# Altium schematic symbol library N-Channel FET.SchLib: 448 symbols (part 1 of 8)
Pins are listed as number, name and electrical type; pins without a type are passive.

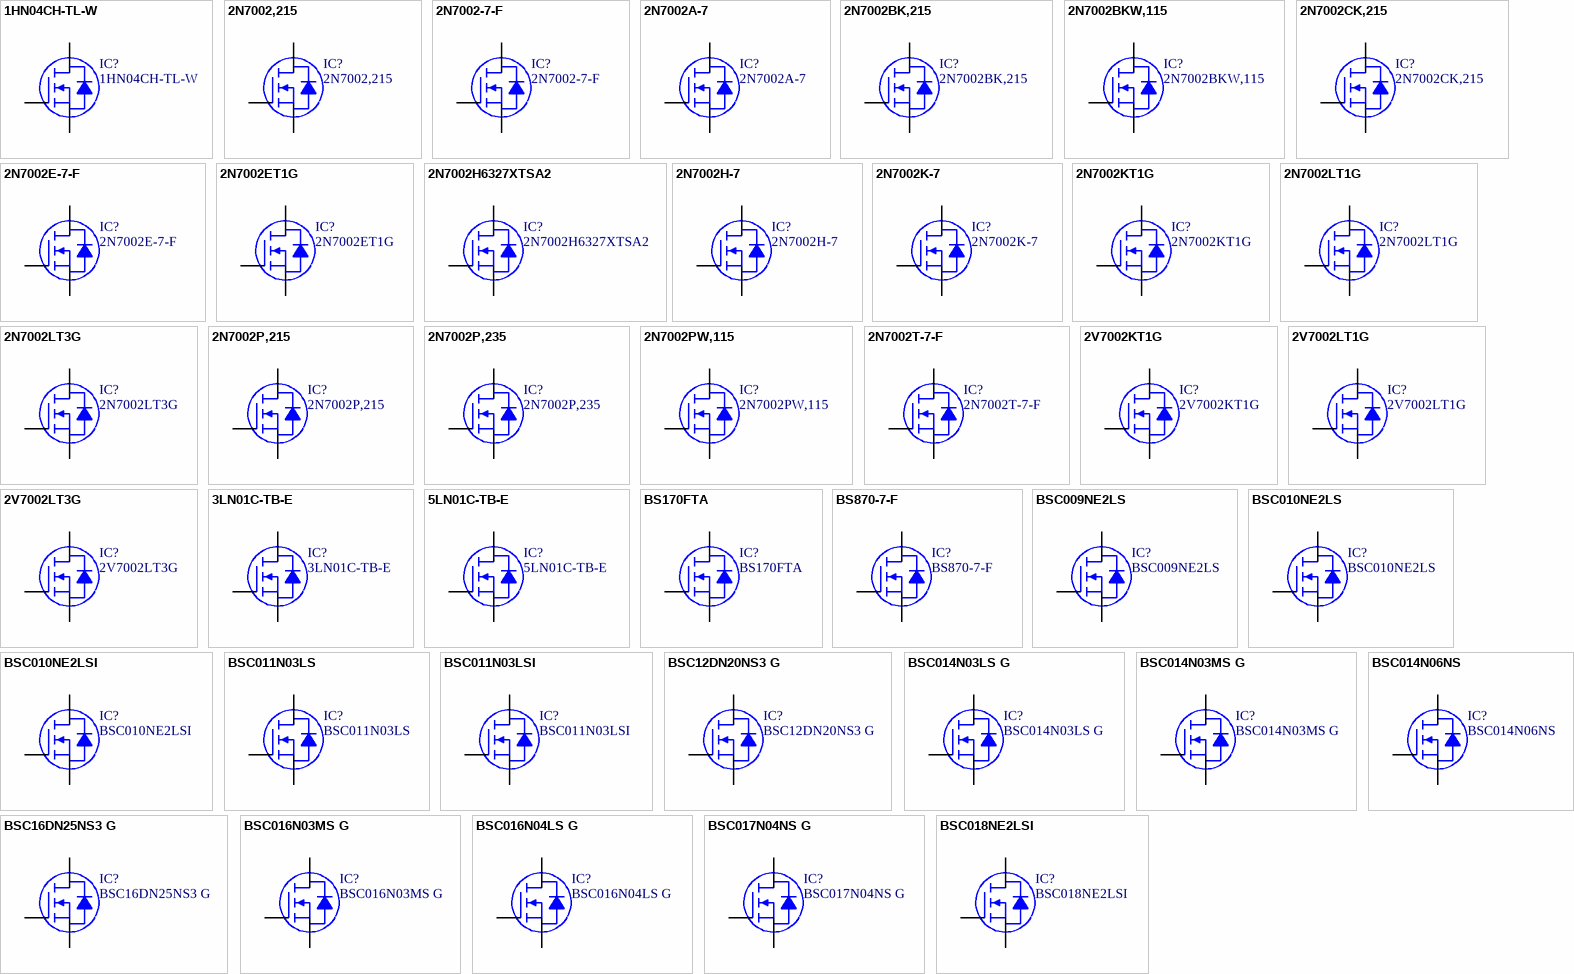
[diagram p0: symbols 1HN04CH-TL-W to BSC018NE2LSI]

## 1HN04CH-TL-W
designator IC?
MOSFET N-CH 100V 0.27A SOT-23; Manufacturer: ON Semiconductor; Rds On (Max) at Id, Vgs: 8 Ohm @ 140mA, 10V; Vgs(th) (Max) at Id: 20V; Gate Charge (Qg): 0.9nC @ 10V; Input Capacitance (Ciss) at Vds: 15pF @ 20V; Current Continuous Drain: 270mA (Ta); Part Number: 1HN04CH-TL-W; PartId: 29631; Supplier 1: Digi-Key; Supplier Part Number 1: 1HN04CH-TL-WOSCT-ND; ComponentLink1Description: Datasheet; ComponentLink1URL: http://www.onsemi.com/pub_link/Collateral/ENA0925-D.PDF; ComponentLink2Description: Digi-Key Listing; ComponentLink2URL: https://www.digikey.com/product-detail/en/on-semiconductor/1HN04CH-TL-W/1HN04CH-TL-WOSCT-ND/5969307; Price: 0.95; Type: N-Channel; Device Package: TO-236-3, SC-59, SOT-23-3; Drain to Source Voltage (Vdss): 100V
footprint ON SEMI SOT-23-3
pins: 1 G, 2 D, 3 S

## 2N7002,215
designator IC?
MOSFET N-CH 60V 300MA SOT-23; Manufacturer: NXP Semiconductors; Rds On (Max) at Id, Vgs: 5 Ohm @ 500mA, 10V; Vgs(th) (Max) at Id: 2.5V @ 250uA; Input Capacitance (Ciss) at Vds: 50pF @ 10V; Power - Max: 830mW; Current Continuous Drain: 300mA (Ta); Part Number: 2N7002,215; PartId: 7965; Supplier 1: Digi-Key; Supplier Part Number 1: 568-1369-2-ND; ComponentLink1Description: Datasheet; ComponentLink1URL: http://www.nxp.com/documents/data_sheet/2N7002.pdf; ComponentLink2Description: Digi-Key Listing; ComponentLink2URL: http://www.digikey.com/product-detail/en/2N7002,215/568-1369-2-ND/762973; Price: 0.0368; Type: MOSFET N-Channel, Metal Oxide; Device Package: TO-236-3, SC-59, SOT-23-3; Gate Charge (Qg): -; Drain to Source Voltage (Vdss): 60V; Features: Logic Level Gate
footprint NXP SOT-23-3 TO-236AB
pins: 1 G, 2 D, 3 S

## 2N7002-7-F
designator IC?
MOSFET N-CH 60V 115MA SOT23-3; Manufacturer: Diodes Incorporated; Rds On (Max) at Id, Vgs: 7.5 Ohm @ 50mA, 5V; Vgs(th) (Max) at Id: 2.5V @ 250uA; Input Capacitance (Ciss) at Vds: 50pF @ 25V; Power - Max: 370mW; Current Continuous Drain: 115mA (Ta); Part Number: 2N7002-7-F; PartId: 7967; Supplier 1: Digi-Key; Supplier Part Number 1: 2N7002-FDITR-ND; ComponentLink1Description: Datasheet; ComponentLink1URL: http://www.diodes.com/_files/datasheets/ds11303.pdf; ComponentLink2Description: Digi-Key Listing; ComponentLink2URL: http://www.digikey.com/product-detail/en/2N7002-7-F/2N7002-FDITR-ND/717681; Price: 0.0255; Type: MOSFET N-Channel, Metal Oxide; Device Package: TO-236-3, SC-59, SOT-23-3; Gate Charge (Qg): -; Drain to Source Voltage (Vdss): 60V; Features: Standard
footprint DIODES SOT-23-3
pins: 1 G, 2 D, 3 S

## 2N7002A-7
designator IC?
MOSFET N-CH 60V 0.18A SOT23; Manufacturer: Diodes Incorporated; Rds On (Max) at Id, Vgs: 6 Ohm @ 115mA, 5V; Vgs(th) (Max) at Id: 20V; Input Capacitance (Ciss) at Vds: 23pF @ 25V; Current Continuous Drain: 180mA (Ta); Part Number: 2N7002A-7; PartId: 29520; Supplier 1: Digi-Key; Supplier Part Number 1: 2N7002A-7DICT-ND; ComponentLink1Description: Datasheet; ComponentLink1URL: http://www.diodes.com/_files/datasheets/ds31360.pdf; ComponentLink2Description: Digi-Key Listing; ComponentLink2URL: https://www.digikey.com/product-detail/en/diodes-incorporated/2N7002A-7/2N7002A-7DICT-ND/3451590; Price: 0.44; Type: N-Channel; Device Package: TO-236-3, SC-59, SOT-23-3; Drain to Source Voltage (Vdss): 60V
footprint DIODES SOT-23-3
pins: 1 G, 2 D, 3 S

## 2N7002BK,215
designator IC?
MOSFET N-CH 60V 350MA SOT23; Manufacturer: NXP USA Inc.; Rds On (Max) at Id, Vgs: 1.6 Ohm @ 500mA, 10V; Vgs(th) (Max) at Id: 20V; Gate Charge (Qg): 0.6nC @ 4.5V; Input Capacitance (Ciss) at Vds: 50pF @ 10V; Current Continuous Drain: 350mA (Ta); Part Number: 2N7002BK,215; PartId: 29581; Supplier 1: Digi-Key; Supplier Part Number 1: 568-5981-1-ND; ComponentLink1Description: Datasheet; ComponentLink1URL: http://www.nxp.com/documents/data_sheet/2N7002BK.pdf; ComponentLink2Description: Digi-Key Listing; ComponentLink2URL: https://www.digikey.com/product-detail/en/nxp-usa-inc/2N7002BK,215/568-5981-1-ND/2531268; Price: 0.41; Type: N-Channel; Device Package: TO-236-3, SC-59, SOT-23-3; Drain to Source Voltage (Vdss): 60V
footprint NXP SOT-23-3 TO-236AB
pins: 1 G, 2 D, 3 S

## 2N7002BKW,115
designator IC?
MOSFET N-CH 60V 310MA SOT323; Manufacturer: NXP Semiconductors; Rds On (Max) at Id, Vgs: 1.6 Ohm @ 500mA, 10V; Vgs(th) (Max) at Id: 2.1V @ 250uA; Gate Charge (Qg): 0.6nC @ 4.5V; Input Capacitance (Ciss) at Vds: 50pF @ 10V; Power - Max: 275mW; Current Continuous Drain: 310mA (Ta); Part Number: 2N7002BKW,115; PartId: 8087; Supplier 1: Digi-Key; Supplier Part Number 1: 568-5980-2-ND; ComponentLink1Description: Datasheet; ComponentLink1URL: http://www.nxp.com/documents/data_sheet/2N7002BKW.pdf; ComponentLink2Description: Digi-Key Listing; ComponentLink2URL: http://www.digikey.com/product-detail/en/2N7002BKW,115/568-5980-2-ND/2405959; Price: 0.0632; Type: MOSFET N-Channel, Metal Oxide; Device Package: SC-70, SOT-323; Drain to Source Voltage (Vdss): 60V; Features: Logic Level Gate
footprint NXP SOT-323-3
pins: 1 G, 2 D, 3 S

## 2N7002CK,215
designator IC?
MOSFET N-CH 60V 0.3A SOT-23; Manufacturer: NXP USA Inc.; Rds On (Max) at Id, Vgs: 1.6 Ohm @ 500mA, 10V; Vgs(th) (Max) at Id: 20V; Gate Charge (Qg): 1.3nC @ 4.5V; Input Capacitance (Ciss) at Vds: 55pF @ 25V; Current Continuous Drain: 300mA (Ta); Part Number: 2N7002CK,215; PartId: 29593; Supplier 1: Digi-Key; Supplier Part Number 1: 568-5982-1-ND; ComponentLink1Description: Datasheet; ComponentLink1URL: http://www.nxp.com/documents/data_sheet/2N7002CK.pdf; ComponentLink2Description: Digi-Key Listing; ComponentLink2URL: https://www.digikey.com/product-detail/en/nxp-usa-inc/2N7002CK,215/568-5982-1-ND/2531269; Price: 0.5; Type: N-Channel; Device Package: TO-236-3, SC-59, SOT-23-3; Drain to Source Voltage (Vdss): 60V
footprint NXP SOT-23-3 TO-236AB
pins: 1 G, 2 D, 3 S

## 2N7002E-7-F
designator IC?
MOSFET N-CH 60V 0.25A SOT23-3; Manufacturer: Diodes Incorporated; Rds On (Max) at Id, Vgs: 3 Ohm @ 250mA, 10V; Vgs(th) (Max) at Id: 20V; Gate Charge (Qg): 0.22nC @ 4.5V; Input Capacitance (Ciss) at Vds: 50pF @ 25V; Current Continuous Drain: 250mA (Ta); Part Number: 2N7002E-7-F; PartId: 29519; Supplier 1: Digi-Key; Supplier Part Number 1: 2N7002E-FDICT-ND; ComponentLink1Description: Datasheet; ComponentLink1URL: http://www.diodes.com/_files/datasheets/ds30376.pdf; ComponentLink2Description: Digi-Key Listing; ComponentLink2URL: https://www.digikey.com/product-detail/en/diodes-incorporated/2N7002E-7-F/2N7002E-FDICT-ND/3877406; Price: 0.4; Type: N-Channel; Device Package: TO-236-3, SC-59, SOT-23-3; Drain to Source Voltage (Vdss): 60V
footprint DIODES SOT-23-3
pins: 1 G, 2 D, 3 S

## 2N7002ET1G
designator IC?
MOSFET N-CH 60V 260MA SOT-23; Manufacturer: ON Semiconductor; Rds On (Max) at Id, Vgs: 2.5 Ohm @ 240mA, 10V; Vgs(th) (Max) at Id: 20V; Gate Charge (Qg): 0.81nC @ 5V; Input Capacitance (Ciss) at Vds: 26.7pF @ 25V; Current Continuous Drain: 260mA (Ta); Part Number: 2N7002ET1G; PartId: 29611; Supplier 1: Digi-Key; Supplier Part Number 1: 2N7002ET1GOSCT-ND; ComponentLink1Description: Datasheet; ComponentLink1URL: http://www.onsemi.com/pub_link/Collateral/2N7002E-D.PDF; ComponentLink2Description: Digi-Key Listing; ComponentLink2URL: https://www.digikey.com/product-detail/en/on-semiconductor/2N7002ET1G/2N7002ET1GOSCT-ND/1967029; Price: 0.21; Type: N-Channel; Device Package: TO-236-3, SC-59, SOT-23-3; Drain to Source Voltage (Vdss): 60V
footprint ON SEMI SOT-23-3
pins: 1 G, 2 D, 3 S

## 2N7002H6327XTSA2
designator IC?
MOSFET N-CH 60V 0.3A SOT363; Manufacturer: Infineon Technologies; Rds On (Max) at Id, Vgs: 3 Ohm @ 500mA, 10V; Vgs(th) (Max) at Id: 20V; Gate Charge (Qg): 0.6nC @ 10V; Input Capacitance (Ciss) at Vds: 20pF @ 25V; Current Continuous Drain: 300mA (Ta); Part Number: 2N7002H6327XTSA2; PartId: 29470; Supplier 1: Digi-Key; Supplier Part Number 1: 2N7002H6327XTSA2CT-ND; ComponentLink1Description: Datasheet; ComponentLink1URL: http://www.infineon.com/dgdl/Infineon-2N7002-DS-v02_04-en.pdf?fileId=db3a304319bc939a0119c2a9461e79e6; ComponentLink2Description: Digi-Key Listing; ComponentLink2URL: https://www.digikey.com/product-detail/en/infineon-technologies/2N7002H6327XTSA2/2N7002H6327XTSA2CT-ND/5409977; Price: 0.28; Type: N-Channel; Device Package: TO-236-3, SC-59, SOT-23-3; Drain to Source Voltage (Vdss): 60V
footprint INFINEON SOT-23-3
pins: 1 G, 2 D, 3 S

## 2N7002H-7
designator IC?
MOSFET N-CH 60V 0.17A SOT23-3; Manufacturer: Diodes Incorporated; Rds On (Max) at Id, Vgs: 7.5 Ohm @ 50mA, 5V; Vgs(th) (Max) at Id: 20V; Gate Charge (Qg): 0.35nC @ 4.5V; Input Capacitance (Ciss) at Vds: 26pF @ 25V; Current Continuous Drain: 170mA (Ta); Part Number: 2N7002H-7; PartId: 29560; Supplier 1: Digi-Key; Supplier Part Number 1: 2N7002H-7DICT-ND; ComponentLink1Description: Datasheet; ComponentLink1URL: http://www.diodes.com/_files/datasheets/2N7002H.pdf; ComponentLink2Description: Digi-Key Listing; ComponentLink2URL: https://www.digikey.com/product-detail/en/diodes-incorporated/2N7002H-7/2N7002H-7DICT-ND/5453139; Price: 0.38; Type: N-Channel; Device Package: TO-236-3, SC-59, SOT-23-3; Drain to Source Voltage (Vdss): 60V
footprint DIODES SOT-23-3
pins: 1 G, 2 D, 3 S

## 2N7002K-7
designator IC?
MOSFET N-CH 60V 0.38A SOT23-3; Manufacturer: Diodes Incorporated; Rds On (Max) at Id, Vgs: 2 Ohm @ 500mA, 10V; Vgs(th) (Max) at Id: 20V; Gate Charge (Qg): 0.3nC @ 4.5V; Input Capacitance (Ciss) at Vds: 50pF @ 25V; Current Continuous Drain: 380mA (Ta); Part Number: 2N7002K-7; PartId: 29491; Supplier 1: Digi-Key; Supplier Part Number 1: 2N7002K-7DICT-ND; ComponentLink1Description: Datasheet; ComponentLink1URL: http://www.diodes.com/_files/datasheets/ds30896.pdf; ComponentLink2Description: Digi-Key Listing; ComponentLink2URL: https://www.digikey.com/product-detail/en/diodes-incorporated/2N7002K-7/2N7002K-7DICT-ND/3053305; Price: 0.31; Type: N-Channel; Device Package: TO-236-3, SC-59, SOT-23-3; Drain to Source Voltage (Vdss): 60V
footprint DIODES SOT-23-3
pins: 1 G, 2 D, 3 S

## 2N7002KT1G
designator IC?
MOSFET N-CH 60V 320MA SOT-23; Manufacturer: ON Semiconductor; Rds On (Max) at Id, Vgs: 1.6 Ohm @ 500mA, 10V; Vgs(th) (Max) at Id: 20V; Gate Charge (Qg): 0.7nC @ 4.5V; Input Capacitance (Ciss) at Vds: 24.5pF @ 20V; Current Continuous Drain: 320mA (Ta); Part Number: 2N7002KT1G; PartId: 29613; Supplier 1: Digi-Key; Supplier Part Number 1: 2N7002KT1GOSCT-ND; ComponentLink1Description: Datasheet; ComponentLink1URL: http://www.onsemi.com/pub_link/Collateral/2N7002K-D.PDF; ComponentLink2Description: Digi-Key Listing; ComponentLink2URL: https://www.digikey.com/product-detail/en/on-semiconductor/2N7002KT1G/2N7002KT1GOSCT-ND/1967030; Price: 0.29; Type: N-Channel; Device Package: TO-236-3, SC-59, SOT-23-3; Drain to Source Voltage (Vdss): 60V
footprint ON SEMI SOT-23-3
pins: 1 G, 2 D, 3 S

## 2N7002LT1G
designator IC?
MOSFET N-CH 60V 0.115A SOT-23; Manufacturer: ON Semiconductor; Rds On (Max) at Id, Vgs: 7.5 Ohm @ 500mA, 10V; Vgs(th) (Max) at Id: 20V; Input Capacitance (Ciss) at Vds: 50pF @ 25V; Current Continuous Drain: 115mA (Tc); Part Number: 2N7002LT1G; PartId: 29602; Supplier 1: Digi-Key; Supplier Part Number 1: 2N7002LT1GOSCT-ND; ComponentLink1Description: Datasheet; ComponentLink1URL: http://www.onsemi.com/pub_link/Collateral/2N7002L-D.PDF; ComponentLink2Description: Digi-Key Listing; ComponentLink2URL: https://www.digikey.com/product-detail/en/on-semiconductor/2N7002LT1G/2N7002LT1GOSCT-ND/917791; Price: 0.21; Type: N-Channel; Device Package: TO-236-3, SC-59, SOT-23-3; Drain to Source Voltage (Vdss): 60V
footprint ON SEMI SOT-23-3
pins: 1 G, 2 D, 3 S

## 2N7002LT3G
designator IC?
MOSFET N-CH 60V 0.115A SOT-23; Manufacturer: ON Semiconductor; Rds On (Max) at Id, Vgs: 7.5 Ohm @ 500mA, 10V; Vgs(th) (Max) at Id: 20V; Input Capacitance (Ciss) at Vds: 50pF @ 25V; Current Continuous Drain: 115mA (Tc); Part Number: 2N7002LT3G; PartId: 29609; Supplier 1: Digi-Key; Supplier Part Number 1: 2N7002LT3GOSCT-ND; ComponentLink1Description: Datasheet; ComponentLink1URL: http://www.onsemi.com/pub_link/Collateral/2N7002L-D.PDF; ComponentLink2Description: Digi-Key Listing; ComponentLink2URL: https://www.digikey.com/product-detail/en/on-semiconductor/2N7002LT3G/2N7002LT3GOSCT-ND/2704932; Price: 0.21; Type: N-Channel; Device Package: TO-236-3, SC-59, SOT-23-3; Drain to Source Voltage (Vdss): 60V
footprint ON SEMI SOT-23-3
pins: 1 G, 2 D, 3 S

## 2N7002P,215
designator IC?
MOSFET N-CH 60V 0.36A SOT-23; Manufacturer: NXP USA Inc.; Rds On (Max) at Id, Vgs: 1.6 Ohm @ 500mA, 10V; Vgs(th) (Max) at Id: 20V; Gate Charge (Qg): 0.8nC @ 4.5V; Input Capacitance (Ciss) at Vds: 50pF @ 10V; Current Continuous Drain: 360mA (Ta); Part Number: 2N7002P,215; PartId: 29580; Supplier 1: Digi-Key; Supplier Part Number 1: 568-5818-1-ND; ComponentLink1Description: Datasheet; ComponentLink1URL: http://www.nxp.com/documents/data_sheet/2N7002P.pdf; ComponentLink2Description: Digi-Key Listing; ComponentLink2URL: https://www.digikey.com/product-detail/en/nxp-usa-inc/2N7002P,215/568-5818-1-ND/2531105; Price: 0.21; Type: N-Channel; Device Package: TO-236-3, SC-59, SOT-23-3; Drain to Source Voltage (Vdss): 60V
footprint NXP SOT-23-3 TO-236AB
pins: 1 G, 2 D, 3 S

## 2N7002P,235
designator IC?
MOSFET N-CH 60V 0.36A SOT-23; Manufacturer: NXP USA Inc.; Rds On (Max) at Id, Vgs: 1.6 Ohm @ 500mA, 10V; Vgs(th) (Max) at Id: 20V; Gate Charge (Qg): 0.8nC @ 4.5V; Input Capacitance (Ciss) at Vds: 50pF @ 10V; Current Continuous Drain: 360mA (Ta); Part Number: 2N7002P,235; PartId: 29588; Supplier 1: Digi-Key; Supplier Part Number 1: 568-11588-1-ND; ComponentLink1Description: Datasheet; ComponentLink1URL: http://www.nxp.com/documents/data_sheet/2N7002P.pdf; ComponentLink2Description: Digi-Key Listing; ComponentLink2URL: https://www.digikey.com/product-detail/en/nxp-usa-inc/2N7002P,235/568-11588-1-ND/5015533; Price: 0.21; Type: N-Channel; Device Package: TO-236-3, SC-59, SOT-23-3; Drain to Source Voltage (Vdss): 60V
footprint NXP SOT-23-3 TO-236AB
pins: 1 G, 2 D, 3 S

## 2N7002PW,115
designator IC?
MOSFET N-CH 60V 0.31A SOT323; Manufacturer: NXP Semiconductors; Rds On (Max) at Id, Vgs: 1.6 Ohm @ 500mA, 10V; Vgs(th) (Max) at Id: 2.4V @ 250uA; Gate Charge (Qg): 0.8nC @ 4.5V; Input Capacitance (Ciss) at Vds: 50pF @ 10V; Power - Max: 260mW; Current Continuous Drain: 310mA (Ta); Part Number: 2N7002PW,115; PartId: 8081; Supplier 1: Digi-Key; Supplier Part Number 1: 568-5987-2-ND; ComponentLink1Description: Datasheet; ComponentLink1URL: http://media.digikey.com/pdf/Data%20Sheets/NXP%20PDFs/DiscreteSemiconductors.pdf; ComponentLink2Description: Digi-Key Listing; ComponentLink2URL: http://www.digikey.com/product-detail/en/2N7002PW,115/568-5987-2-ND/2296328; Price: 0.046; Type: MOSFET N-Channel, Metal Oxide; Device Package: SC-70, SOT-323; Drain to Source Voltage (Vdss): 60V; Features: Logic Level Gate
footprint NXP SOT-323-3
pins: 1 G, 2 D, 3 S

## 2N7002T-7-F
designator IC?
MOSFET N-CH 60V 115MA SOT-523; Manufacturer: Diodes Incorporated; Rds On (Max) at Id, Vgs: 7.5 Ohm @ 50mA, 5V; Vgs(th) (Max) at Id: 2V @ 250uA; Input Capacitance (Ciss) at Vds: 50pF @ 25V; Power - Max: 150mW; Current Continuous Drain: 115mA (Ta); Part Number: 2N7002T-7-F; PartId: 7966; Supplier 1: Digi-Key; Supplier Part Number 1: 2N7002T-FDITR-ND; ComponentLink1Description: Datasheet; ComponentLink1URL: http://www.diodes.com/_files/datasheets/ds30301.pdf; ComponentLink2Description: Digi-Key Listing; ComponentLink2URL: http://www.digikey.com/product-detail/en/2N7002T-7-F/2N7002T-FDITR-ND/814963; Price: 0.07; Type: MOSFET N-Channel, Metal Oxide; Device Package: SOT-523; Gate Charge (Qg): -; Drain to Source Voltage (Vdss): 60V; Features: Standard
footprint DIODES SOT-523
pins: 1 G, 2 D, 3 S

## 2V7002KT1G
designator IC?
MOSFET N-CH 60V 320MA SOT-23-3; Manufacturer: ON Semiconductor; Rds On (Max) at Id, Vgs: 1.6 Ohm @ 500mA, 10V; Vgs(th) (Max) at Id: 20V; Gate Charge (Qg): 0.7nC @ 4.5V; Input Capacitance (Ciss) at Vds: 24.5pF @ 20V; Current Continuous Drain: 320mA (Ta); Part Number: 2V7002KT1G; PartId: 29615; Supplier 1: Digi-Key; Supplier Part Number 1: 2V7002KT1GOSCT-ND; ComponentLink1Description: Datasheet; ComponentLink1URL: http://www.onsemi.com/pub_link/Collateral/2N7002K-D.PDF; ComponentLink2Description: Digi-Key Listing; ComponentLink2URL: https://www.digikey.com/product-detail/en/on-semiconductor/2V7002KT1G/2V7002KT1GOSCT-ND/3487498; Price: 0.35; Type: N-Channel; Device Package: TO-236-3, SC-59, SOT-23-3; Drain to Source Voltage (Vdss): 60V
footprint ON SEMI SOT-23-3
pins: 1 G, 2 D, 3 S

## 2V7002LT1G
designator IC?
MOSFET N-CH 60V 0.115A SOT-23-3; Manufacturer: ON Semiconductor; Rds On (Max) at Id, Vgs: 7.5 Ohm @ 500mA, 10V; Vgs(th) (Max) at Id: 20V; Input Capacitance (Ciss) at Vds: 50pF @ 25V; Current Continuous Drain: 115mA (Tc); Part Number: 2V7002LT1G; PartId: 29614; Supplier 1: Digi-Key; Supplier Part Number 1: 2V7002LT1GOSCT-ND; ComponentLink1Description: Datasheet; ComponentLink1URL: http://www.onsemi.com/pub_link/Collateral/2N7002L-D.PDF; ComponentLink2Description: Digi-Key Listing; ComponentLink2URL: https://www.digikey.com/product-detail/en/on-semiconductor/2V7002LT1G/2V7002LT1GOSCT-ND/4331836; Price: 0.35; Type: N-Channel; Device Package: TO-236-3, SC-59, SOT-23-3; Drain to Source Voltage (Vdss): 60V
footprint ON SEMI SOT-23-3
pins: 1 G, 2 D, 3 S

## 2V7002LT3G
designator IC?
MOSFET N-CH 60V .115A; Manufacturer: ON Semiconductor; Rds On (Max) at Id, Vgs: 7.5 Ohm @ 500mA, 10V; Vgs(th) (Max) at Id: 20V; Input Capacitance (Ciss) at Vds: 50pF @ 25V; Current Continuous Drain: 115mA (Tc); Part Number: 2V7002LT3G; PartId: 29625; Supplier 1: Digi-Key; Supplier Part Number 1: 2V7002LT3GOSCT-ND; ComponentLink1Description: Datasheet; ComponentLink1URL: http://www.onsemi.com/pub_link/Collateral/2N7002L-D.PDF; ComponentLink2Description: Digi-Key Listing; ComponentLink2URL: https://www.digikey.com/product-detail/en/on-semiconductor/2V7002LT3G/2V7002LT3GOSCT-ND/5801679; Price: 0.35; Type: N-Channel; Device Package: TO-236-3, SC-59, SOT-23-3; Drain to Source Voltage (Vdss): 60V
footprint ON SEMI SOT-23-3
pins: 1 G, 2 D, 3 S

## 3LN01C-TB-E
designator IC?
MOSFET N-CH 30V 150MA 3CP; Manufacturer: ON Semiconductor; Rds On (Max) at Id, Vgs: 3.7 Ohm @ 80mA, 4V; Vgs(th) (Max) at Id: 10V; Gate Charge (Qg): 1.58nC @ 10V; Input Capacitance (Ciss) at Vds: 7pF @ 10V; Current Continuous Drain: 150mA (Ta); Part Number: 3LN01C-TB-E; PartId: 29626; Supplier 1: Digi-Key; Supplier Part Number 1: 3LN01C-TB-EOSCT-ND; ComponentLink1Description: Datasheet; ComponentLink1URL: http://www.onsemi.com/pub_link/Collateral/3LN01C-D.PDF; ComponentLink2Description: Digi-Key Listing; ComponentLink2URL: https://www.digikey.com/product-detail/en/on-semiconductor/3LN01C-TB-E/3LN01C-TB-EOSCT-ND/5969372; Price: 0.51; Type: N-Channel; Device Package: TO-236-3, SC-59, SOT-23-3; Drain to Source Voltage (Vdss): 30V
footprint ON SEMI SOT-23-3
pins: 1 G, 2 D, 3 S

## 5LN01C-TB-E
designator IC?
MOSFET N-CH 50V 100MA 3CP; Manufacturer: ON Semiconductor; Rds On (Max) at Id, Vgs: 7.8 Ohm @ 50mA, 4V; Vgs(th) (Max) at Id: 10V; Gate Charge (Qg): 1.57nC @ 10V; Input Capacitance (Ciss) at Vds: 6.6pF @ 10V; Current Continuous Drain: 100mA (Ta); Part Number: 5LN01C-TB-E; PartId: 29618; Supplier 1: Digi-Key; Supplier Part Number 1: 5LN01C-TB-EOSCT-ND; ComponentLink1Description: Datasheet; ComponentLink1URL: http://www.onsemi.com/pub_link/Collateral/EN6555A-D.PDF; ComponentLink2Description: Digi-Key Listing; ComponentLink2URL: https://www.digikey.com/product-detail/en/on-semiconductor/5LN01C-TB-E/5LN01C-TB-EOSCT-ND/5213188; Price: 0.63; Type: N-Channel; Device Package: TO-236-3, SC-59, SOT-23-3; Drain to Source Voltage (Vdss): 50V
footprint ON SEMI SOT-23-3
pins: 1 G, 2 D, 3 S

## BS170FTA
designator IC?
MOSFET N-CH 60V 150MA SOT23-3; Manufacturer: Diodes Incorporated; Rds On (Max) at Id, Vgs: 5 Ohm @ 200mA, 10V; Vgs(th) (Max) at Id: 20V; Input Capacitance (Ciss) at Vds: 60pF @ 10V; Current Continuous Drain: 150mA (Ta); Part Number: BS170FTA; PartId: 29515; Supplier 1: Digi-Key; Supplier Part Number 1: BS170FCT-ND; ComponentLink1Description: Datasheet; ComponentLink1URL: //media.digikey.com/pdf/Data%20Sheets/Zetex%20PDFs/BS170F.PDF; ComponentLink2Description: Digi-Key Listing; ComponentLink2URL: https://www.digikey.com/product-detail/en/diodes-incorporated/BS170FTA/BS170FCT-ND/58816; Price: 0.97; Type: N-Channel; Device Package: TO-236-3, SC-59, SOT-23-3; Drain to Source Voltage (Vdss): 60V
footprint DIODES SOT-23-3
pins: 1 G, 2 D, 3 S

## BS870-7-F
designator IC?
MOSFET N-CH 60V 0.25A SOT23-3; Manufacturer: Diodes Incorporated; Rds On (Max) at Id, Vgs: 5 Ohm @ 200mA, 10V; Vgs(th) (Max) at Id: 20V; Input Capacitance (Ciss) at Vds: 50pF @ 10V; Current Continuous Drain: 250mA (Ta); Part Number: BS870-7-F; PartId: 29564; Supplier 1: Digi-Key; Supplier Part Number 1: BS870-FDICT-ND; ComponentLink1Description: Datasheet; ComponentLink1URL: http://www.diodes.com/_files/datasheets/ds11302.pdf; ComponentLink2Description: Digi-Key Listing; ComponentLink2URL: https://www.digikey.com/product-detail/en/diodes-incorporated/BS870-7-F/BS870-FDICT-ND/717841; Price: 0.5; Type: N-Channel; Device Package: TO-236-3, SC-59, SOT-23-3; Drain to Source Voltage (Vdss): 60V
footprint DIODES SOT-23-3
pins: 1 G, 2 D, 3 S

## BSC009NE2LS
designator IC?
MOSFET N-CH 25V 41A TDSON-8; Manufacturer: Infineon Technologies; Rds On (Max) at Id, Vgs: 0.9 mOhm @ 30A, 10V; Vgs(th) (Max) at Id: 2.2V @ 250uA; Gate Charge (Qg): 126nC @ 10V; Input Capacitance (Ciss) at Vds: 5800pF @ 12V; Power - Max: 96W; Current Continuous Drain: 41A (Ta), 100A (Tc); Part Number: BSC009NE2LS; PartId: 8012; Supplier 1: Digi-Key; Supplier Part Number 1: BSC009NE2LSTR-ND; ComponentLink1Description: Datasheet; ComponentLink1URL: http://www.infineon.com/dgdl/BSC009NE2LS_Rev+2.1.pdf?folderId=db3a304313b8b5a60113cee8763b02d7&fileId=db3a304332d040720132dd4232240e1d; ComponentLink2Description: Digi-Key Listing; ComponentLink2URL: http://www.digikey.com/product-detail/en/BSC009NE2LS/BSC009NE2LSTR-ND/2783437; Price: 0.6384; Type: MOSFET N-Channel, Metal Oxide; Device Package: 8-PowerTDFN; Drain to Source Voltage (Vdss): 25V; Features: Standard
footprint INFINEON PG-TDSON-8 6.15x5.32mm
pins: 1 S, 2 S, 3 S, 4 G, 5 D, 6 D, 7 D, 8 D

## BSC010NE2LS
designator IC?
MOSFET N-CH 25V 39A TDSON-8; Manufacturer: Infineon Technologies; Rds On (Max) at Id, Vgs: 1 mOhm @ 30A, 10V; Vgs(th) (Max) at Id: 2V @ 250uA; Gate Charge (Qg): 64nC @ 10V; Input Capacitance (Ciss) at Vds: 4700pF @ 12V; Power - Max: 2.5W; Current Continuous Drain: 39A (Ta), 100A (Tc); Part Number: BSC010NE2LS; PartId: 8038; Supplier 1: Digi-Key; Supplier Part Number 1: BSC010NE2LSTR-ND; ComponentLink1Description: Datasheet; ComponentLink1URL: http://www.infineon.com/dgdl/BSC010NE2LS_Rev+2.1.pdf?folderId=db3a304326dfb1300126fb3bec803f1a&fileId=db3a304326dfb1300126fb3d176a3f1b; ComponentLink2Description: Digi-Key Listing; ComponentLink2URL: http://www.digikey.com/product-detail/en/BSC010NE2LS/BSC010NE2LSTR-ND/2783438; Price: 0.5515; Type: MOSFET N-Channel, Metal Oxide; Device Package: 8-PowerTDFN; Drain to Source Voltage (Vdss): 25V; Features: Standard
footprint INFINEON PG-TDSON-8 6.15x5.32mm
pins: 1 S, 2 S, 3 S, 4 G, 5 D, 6 D, 7 D, 8 D

## BSC010NE2LSI
designator IC?
MOSFET N-CH 25V 38A TDSON-8; Manufacturer: Infineon Technologies; Rds On (Max) at Id, Vgs: 1.05 mOhm @ 30A, 10V; Vgs(th) (Max) at Id: 2V @ 250uA; Gate Charge (Qg): 59nC @ 10V; Input Capacitance (Ciss) at Vds: 4200pF @ 12V; Power - Max: 96W; Current Continuous Drain: 38A (Ta), 100A (Tc); Part Number: BSC010NE2LSI; PartId: 7977; Supplier 1: Digi-Key; Supplier Part Number 1: BSC010NE2LSITR-ND; ComponentLink1Description: Datasheet; ComponentLink1URL: http://www.infineon.com/dgdl/BSC010NE2LSI_Rev_2.1.pdf?folderId=db3a304313b8b5a60113cee8763b02d7&fileId=db3a30433072cd8f01308d8d1cdf33de; ComponentLink2Description: Digi-Key Listing; ComponentLink2URL: http://www.digikey.com/product-detail/en/BSC010NE2LSI/BSC010NE2LSITR-ND/2783439; Price: 0.5985; Type: MOSFET N-Channel, Metal Oxide; Device Package: 8-PowerTDFN; Drain to Source Voltage (Vdss): 25V; Features: Standard
footprint INFINEON PG-TDSON-8 6.15x5.32mm
pins: 1 S, 2 S, 3 S, 4 G, 5 D, 6 D, 7 D, 8 D

## BSC011N03LS
designator IC?
MOSFET N-CH 30V 100A 8TDSON; Manufacturer: Infineon Technologies; Rds On (Max) at Id, Vgs: 1.1 mOhm @ 30A, 10V; Vgs(th) (Max) at Id: 2.2V @ 250uA; Gate Charge (Qg): 72nC @ 10V; Input Capacitance (Ciss) at Vds: 4700pF @ 15V; Power - Max: 96W; Current Continuous Drain: 37A (Ta), 100A (Tc); Part Number: BSC011N03LS; PartId: 7995; Supplier 1: Digi-Key; Supplier Part Number 1: BSC011N03LSTR-ND; ComponentLink1Description: Datasheet; ComponentLink1URL: http://www.infineon.com/dgdl/BSC011N03LS_Rev+1.2.pdf?folderId=db3a304313b8b5a60113cee8763b02d7&fileId=db3a30432c64a60d012cbb2c20ff02a0; ComponentLink2Description: Digi-Key Listing; ComponentLink2URL: http://www.digikey.com/product-detail/en/BSC011N03LS/BSC011N03LSTR-ND/2527815; Price: 0.532; Type: MOSFET N-Channel, Metal Oxide; Device Package: 8-PowerTDFN; Drain to Source Voltage (Vdss): 30V; Features: Standard
footprint INFINEON PG-TDSON-8 6.15x5.32mm
pins: 1 S, 2 S, 3 S, 4 G, 5 D, 6 D, 7 D, 8 D

## BSC011N03LSI
designator IC?
MOSFET N-CH 30V 37A TDSON-8; Manufacturer: Infineon Technologies; Rds On (Max) at Id, Vgs: 1.1 mOhm @ 30A, 10V; Vgs(th) (Max) at Id: 2V @ 250uA; Gate Charge (Qg): 68nC @ 10V; Input Capacitance (Ciss) at Vds: 4300pF @ 15V; Power - Max: 96W; Current Continuous Drain: 37A (Ta), 100A (Tc); Part Number: BSC011N03LSI; PartId: 7992; Supplier 1: Digi-Key; Supplier Part Number 1: BSC011N03LSITR-ND; ComponentLink1Description: Datasheet; ComponentLink1URL: http://www.infineon.com/dgdl/BSC011N03LSI_Rev_2.1.pdf?folderId=db3a304313b8b5a60113cee8763b02d7&fileId=db3a30433072cd8f013097dfdcc22f66; ComponentLink2Description: Digi-Key Listing; ComponentLink2URL: http://www.digikey.com/product-detail/en/BSC011N03LSI/BSC011N03LSITR-ND/2783440; Price: 0.5586; Type: MOSFET N-Channel, Metal Oxide; Device Package: 8-PowerTDFN; Drain to Source Voltage (Vdss): 30V; Features: Standard
footprint INFINEON PG-TDSON-8 6.15x5.32mm
pins: 1 S, 2 S, 3 S, 4 G, 5 D, 6 D, 7 D, 8 D

## BSC12DN20NS3 G
designator IC?
MOSFET N-CH 200V 11.3A 8TDSON; Manufacturer: Infineon Technologies; Rds On (Max) at Id, Vgs: 125 mOhm @ 5.7A, 10V; Vgs(th) (Max) at Id: 4V @ 25uA; Gate Charge (Qg): 8.7nC @ 10V; Input Capacitance (Ciss) at Vds: 680pF @ 100V; Power - Max: 50W; Current Continuous Drain: 11.3A (Tc); Part Number: BSC12DN20NS3 G; PartId: 8041; Supplier 1: Digi-Key; Supplier Part Number 1: BSC12DN20NS3GTR-ND; ComponentLink1Description: Datasheet; ComponentLink1URL: http://www.infineon.com/dgdl/BSC12DN20NS3+Rev2.1.pdf?folderId=db3a304325305e6d012596c6ca7b290a&fileId=db3a30432ad629a6012b146334d419ec; ComponentLink2Description: Digi-Key Listing; ComponentLink2URL: http://www.digikey.com/product-detail/en/BSC12DN20NS3%20G/BSC12DN20NS3GTR-ND/2527821; Price: 0.5111; Type: MOSFET N-Channel, Metal Oxide; Device Package: 8-PowerTDFN; Drain to Source Voltage (Vdss): 200V; Features: Standard
footprint INFINEON PG-TDSON-8 6.15x5.32mm
pins: 1 S, 2 S, 3 S, 4 G, 5 D, 6 D, 7 D, 8 D

## BSC014N03LS G
designator IC?
MOSFET N-CH 30V 100A TDSON-8; Manufacturer: Infineon Technologies; Rds On (Max) at Id, Vgs: 1.4 mOhm @ 30A, 10V; Vgs(th) (Max) at Id: 2.2V @ 250uA; Gate Charge (Qg): 131nC @ 10V; Input Capacitance (Ciss) at Vds: 10000pF @ 15V; Power - Max: 139W; Current Continuous Drain: 34A (Ta), 100A (Tc); Part Number: BSC014N03LS G; PartId: 8027; Supplier 1: Digi-Key; Supplier Part Number 1: BSC014N03LS GTR-ND; ComponentLink1Description: Datasheet; ComponentLink1URL: http://www.infineon.com/dgdl/BSC014N03LS_rev1.3.pdf?folderId=db3a304313b8b5a60113cee8ed2a02db&fileId=db3a30431be39b97011c23384f5d77fb; ComponentLink2Description: Digi-Key Listing; ComponentLink2URL: http://www.digikey.com/product-detail/en/BSC014N03LS%20G/BSC014N03LS%20GTR-ND/2080608; Price: 0.5519; Type: MOSFET N-Channel, Metal Oxide; Device Package: 8-PowerTDFN; Drain to Source Voltage (Vdss): 30V; Features: Logic Level Gate
footprint INFINEON PG-TDSON-8 6.15x5.32mm
pins: 1 S, 2 S, 3 S, 4 G, 5 D, 6 D, 7 D, 8 D

## BSC014N03MS G
designator IC?
MOSFET N-CH 30V 100A TDSON-8; Manufacturer: Infineon Technologies; Rds On (Max) at Id, Vgs: 1.4 mOhm @ 30A, 10V; Vgs(th) (Max) at Id: 2V @ 250uA; Gate Charge (Qg): 173nC @ 10V; Input Capacitance (Ciss) at Vds: 13000pF @ 15V; Power - Max: 139W; Current Continuous Drain: 30A (Ta), 100A (Tc); Part Number: BSC014N03MS G; PartId: 8026; Supplier 1: Digi-Key; Supplier Part Number 1: BSC014N03MS GTR-ND; ComponentLink1Description: Datasheet; ComponentLink1URL: http://www.infineon.com/dgdl/BSC014N03MSG_rev1.2.pdf?folderId=db3a304313d846880113d91d60c500c4&fileId=db3a304319c6f18c011a38f5a96704e8; ComponentLink2Description: Digi-Key Listing; ComponentLink2URL: http://www.digikey.com/product-detail/en/BSC014N03MS%20G/BSC014N03MS%20GTR-ND/2080609; Price: 0.5519; Type: MOSFET N-Channel, Metal Oxide; Device Package: 8-PowerTDFN; Drain to Source Voltage (Vdss): 30V; Features: Standard
footprint INFINEON PG-TDSON-8 6.15x5.32mm
pins: 1 S, 2 S, 3 S, 4 G, 5 D, 6 D, 7 D, 8 D

## BSC014N06NS
designator IC?
MOSFET N-CH 60V 30A TDSON-8; Manufacturer: Infineon Technologies; Rds On (Max) at Id, Vgs: 1.45 mOhm @ 50A, 10V; Vgs(th) (Max) at Id: 2.8V @ 120uA; Gate Charge (Qg): 89nC @ 10V; Input Capacitance (Ciss) at Vds: 6500pF @ 30V; Power - Max: 2.5W; Current Continuous Drain: 30A (Ta), 100A (Tc); Part Number: BSC014N06NS; PartId: 8035; Supplier 1: Digi-Key; Supplier Part Number 1: BSC014N06NSTR-ND; ComponentLink1Description: Datasheet; ComponentLink1URL: http://www.infineon.com/dgdl/BSC014N06NS_Rev2.0.pdf?folderId=db3a304313b8b5a60113cee8763b02d7&fileId=db3a3043382e837301386ab95a521dcd; ComponentLink2Description: Digi-Key Listing; ComponentLink2URL: http://www.digikey.com/product-detail/en/BSC014N06NS/BSC014N06NSTR-ND/3719714; Price: 1.383; Type: MOSFET N-Channel, Metal Oxide; Device Package: 8-PowerTDFN; Drain to Source Voltage (Vdss): 60V; Features: Standard
footprint INFINEON PG-TDSON-8 6.15x5.32mm
pins: 1 S, 2 S, 3 S, 4 G, 5 D, 6 D, 7 D, 8 D

## BSC16DN25NS3 G
designator IC?
MOSFET N-CH 250V 10.9A 8TDSON; Manufacturer: Infineon Technologies; Rds On (Max) at Id, Vgs: 165 mOhm @ 5.5A, 10V; Vgs(th) (Max) at Id: 4V @ 32uA; Gate Charge (Qg): 11.4nC @ 10V; Input Capacitance (Ciss) at Vds: 920pF @ 100V; Power - Max: 62.5W; Current Continuous Drain: 10.9A (Tc); Part Number: BSC16DN25NS3 G; PartId: 8031; Supplier 1: Digi-Key; Supplier Part Number 1: BSC16DN25NS3GTR-ND; ComponentLink1Description: Datasheet; ComponentLink1URL: http://www.infineon.com/dgdl/BSC16DN25NS3+Rev2.1.pdf?folderId=db3a304325305e6d012596c6ca7b290a&fileId=db3a30432ad629a6012b1564f4541a33; ComponentLink2Description: Digi-Key Listing; ComponentLink2URL: http://www.digikey.com/product-detail/en/BSC16DN25NS3%20G/BSC16DN25NS3GTR-ND/2527822; Price: 0.6928; Type: MOSFET N-Channel, Metal Oxide; Device Package: 8-PowerTDFN; Drain to Source Voltage (Vdss): 250V; Features: Standard
footprint INFINEON PG-TDSON-8 6.15x5.32mm
pins: 1 S, 2 S, 3 S, 4 G, 5 D, 6 D, 7 D, 8 D

## BSC016N03MS G
designator IC?
MOSFET N-CH 30V 100A TDSON-8; Manufacturer: Infineon Technologies; Rds On (Max) at Id, Vgs: 1.6 mOhm @ 30A, 10V; Vgs(th) (Max) at Id: 2V @ 250uA; Gate Charge (Qg): 173nC @ 10V; Input Capacitance (Ciss) at Vds: 13000pF @ 15V; Power - Max: 125W; Current Continuous Drain: 28A (Ta), 100A (Tc); Part Number: BSC016N03MS G; PartId: 7981; Supplier 1: Digi-Key; Supplier Part Number 1: BSC016N03MSGINTR-ND; ComponentLink1Description: Datasheet; ComponentLink1URL: http://www.infineon.com/cms/en/services/download.html?filename=%2Fdgdl%2FBSC01.11.pdf%3FfolderId%3Ddb3a304313d846880113d91d60c500c4%26fileId%3Ddb3a304313d846880113de4a19bb0334&location=.en.product.fi; ComponentLink2Description: Digi-Key Listing; ComponentLink2URL: http://www.digikey.com/product-detail/en/BSC016N03MS%20G/BSC016N03MSGINTR-ND/1785561; Price: 0.5453; Type: MOSFET N-Channel, Metal Oxide; Device Package: 8-PowerTDFN; Drain to Source Voltage (Vdss): 30V; Features: Standard
footprint INFINEON PG-TDSON-8 6.15x5.32mm
pins: 1 S, 2 S, 3 S, 4 G, 5 D, 6 D, 7 D, 8 D

## BSC016N04LS G
designator IC?
MOSFET N-CH 40V 100A TDSON-8; Manufacturer: Infineon Technologies; Rds On (Max) at Id, Vgs: 1.6 mOhm @ 50A, 10V; Vgs(th) (Max) at Id: 2V @ 85uA; Gate Charge (Qg): 150nC @ 10V; Input Capacitance (Ciss) at Vds: 12000pF @ 20V; Power - Max: 139W; Current Continuous Drain: 31A (Ta), 100A (Tc); Part Number: BSC016N04LS G; PartId: 7980; Supplier 1: Digi-Key; Supplier Part Number 1: BSC016N04LS GTR-ND; ComponentLink1Description: Datasheet; ComponentLink1URL: http://www.infineon.com/dgdl/BSC016N04LSG_rev1.6.pdf?folderId=db3a304313b8b5a60113cee8763b02d7&fileId=db3a304318a6cd680118efe284830226; ComponentLink2Description: Digi-Key Listing; ComponentLink2URL: http://www.digikey.com/product-detail/en/BSC016N04LS%20G/BSC016N04LS%20GTR-ND/2080610; Price: 0.8703; Type: MOSFET N-Channel, Metal Oxide; Device Package: 8-PowerTDFN; Drain to Source Voltage (Vdss): 40V; Features: Logic Level Gate
footprint INFINEON PG-TDSON-8 6.15x5.32mm
pins: 1 S, 2 S, 3 S, 4 G, 5 D, 6 D, 7 D, 8 D

## BSC017N04NS G
designator IC?
MOSFET N-CH 40V 100A TDSON-8; Manufacturer: Infineon Technologies; Rds On (Max) at Id, Vgs: 1.7 mOhm @ 50A, 10V; Vgs(th) (Max) at Id: 4V @ 85uA; Gate Charge (Qg): 108nC @ 10V; Input Capacitance (Ciss) at Vds: 8800pF @ 20V; Power - Max: 139W; Current Continuous Drain: 30A (Ta), 100A (Tc); Part Number: BSC017N04NS G; PartId: 8030; Supplier 1: Digi-Key; Supplier Part Number 1: BSC017N04NS GTR-ND; ComponentLink1Description: Datasheet; ComponentLink1URL: http://www.infineon.com/dgdl/BSC017N04NSG_rev1.24.pdf?folderId=db3a304313b8b5a60113cee8763b02d7&fileId=db3a304318a6cd680118efe5d5a60236; ComponentLink2Description: Digi-Key Listing; ComponentLink2URL: http://www.digikey.com/product-detail/en/BSC017N04NS%20G/BSC017N04NS%20GTR-ND/2080611; Price: 0.8478; Type: MOSFET N-Channel, Metal Oxide; Device Package: 8-PowerTDFN; Drain to Source Voltage (Vdss): 40V; Features: Standard
footprint INFINEON PG-TDSON-8 6.15x5.32mm
pins: 1 S, 2 S, 3 S, 4 G, 5 D, 6 D, 7 D, 8 D

## BSC018NE2LSI
designator IC?
MOSFET N-CH 25V 29A TDSON-8; Manufacturer: Infineon Technologies; Rds On (Max) at Id, Vgs: 1.8 mOhm @ 30A, 10V; Vgs(th) (Max) at Id: 2V @ 250uA; Gate Charge (Qg): 36nC @ 10V; Input Capacitance (Ciss) at Vds: 2500pF @ 12V; Power - Max: 69W; Current Continuous Drain: 29A (Ta), 100A (Tc); Part Number: BSC018NE2LSI; PartId: 8039; Supplier 1: Digi-Key; Supplier Part Number 1: BSC018NE2LSITR-ND; ComponentLink1Description: Datasheet; ComponentLink1URL: http://www.infineon.com/dgdl/BSC018NE2LSI_Rev+2.2.pdf?folderId=db3a304313b8b5a60113cee8763b02d7&fileId=db3a30433072cd8f013093b8abf971c2; ComponentLink2Description: Digi-Key Listing; ComponentLink2URL: http://www.digikey.com/product-detail/en/BSC018NE2LSI/BSC018NE2LSITR-ND/2783443; Price: 0.4256; Type: MOSFET N-Channel, Metal Oxide; Device Package: 8-PowerTDFN; Drain to Source Voltage (Vdss): 25V; Features: Standard
footprint INFINEON PG-TDSON-8 6.15x5.32mm
pins: 1 S, 2 S, 3 S, 4 G, 5 D, 6 D, 7 D, 8 D

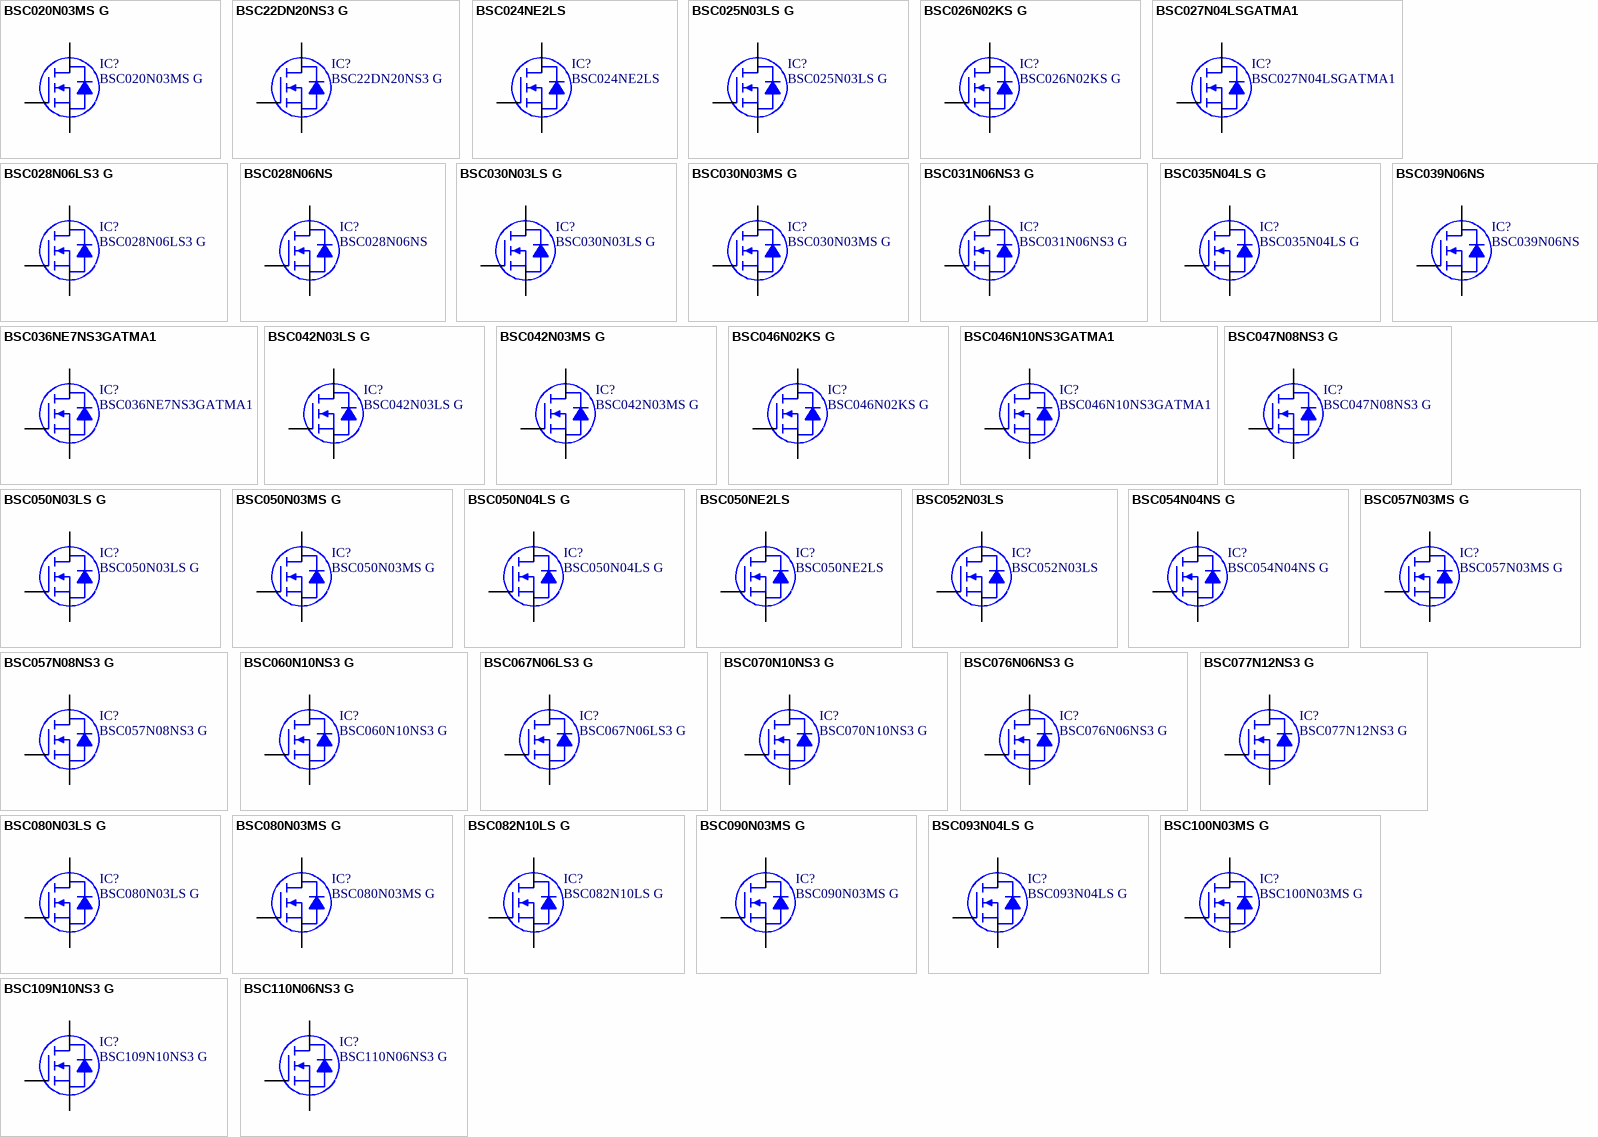
[diagram p1: symbols BSC020N03MS G to BSC110N06NS3 G]

## BSC020N03MS G
designator IC?
MOSFET N-CH 30V 100A TDSON-8; Manufacturer: Infineon Technologies; Rds On (Max) at Id, Vgs: 2 mOhm @ 30A, 10V; Vgs(th) (Max) at Id: 2V @ 250uA; Gate Charge (Qg): 124nC @ 10V; Input Capacitance (Ciss) at Vds: 9600pF @ 15V; Power - Max: 96W; Current Continuous Drain: 25A (Ta), 100A (Tc); Part Number: BSC020N03MS G; PartId: 7986; Supplier 1: Digi-Key; Supplier Part Number 1: BSC020N03MSGINTR-ND; ComponentLink1Description: Datasheet; ComponentLink1URL: http://www.infineon.com/cms/en/services/download.html?filename=%2Fdgdl%2FBSC020N03MS_rev1.11.pdf%3FfolderId%3Ddb3a304313d846880113d91d60c500c4%26fileId%3Ddb3a304313d846880113de4cd99d033e&location=.en; ComponentLink2Description: Digi-Key Listing; ComponentLink2URL: http://www.digikey.com/product-detail/en/BSC020N03MS%20G/BSC020N03MSGINTR-ND/1785562; Price: 0.4692; Type: MOSFET N-Channel, Metal Oxide; Device Package: 8-PowerTDFN; Drain to Source Voltage (Vdss): 30V; Features: Standard
footprint INFINEON PG-TDSON-8 6.15x5.32mm
pins: 1 S, 2 S, 3 S, 4 G, 5 D, 6 D, 7 D, 8 D

## BSC22DN20NS3 G
designator IC?
MOSFET N-CH 200V 7A 8TDSON; Manufacturer: Infineon Technologies; Rds On (Max) at Id, Vgs: 225 mOhm @ 3.5A, 10V; Vgs(th) (Max) at Id: 4V @ 13uA; Gate Charge (Qg): 5.6nC @ 10V; Input Capacitance (Ciss) at Vds: 430pF @ 100V; Power - Max: 34W; Current Continuous Drain: 7A (Tc); Part Number: BSC22DN20NS3 G; PartId: 8018; Supplier 1: Digi-Key; Supplier Part Number 1: BSC22DN20NS3 GTR-ND; ComponentLink1Description: Datasheet; ComponentLink1URL: http://www.infineon.com/dgdl/BSC22DN20NS3+Rev2.2.pdf?folderId=db3a304325305e6d012596c6ca7b290a&fileId=db3a30432ad629a6012b1582d2df1a48; ComponentLink2Description: Digi-Key Listing; ComponentLink2URL: http://www.digikey.com/product-detail/en/BSC22DN20NS3%20G/BSC22DN20NS3%20GTR-ND/2783228; Price: 0.4089; Type: MOSFET N-Channel, Metal Oxide; Device Package: 8-PowerTDFN; Drain to Source Voltage (Vdss): 200V; Features: Standard
footprint INFINEON PG-TDSON-8 6.15x5.32mm
pins: 1 S, 2 S, 3 S, 4 G, 5 D, 6 D, 7 D, 8 D

## BSC024NE2LS
designator IC?
MOSFET N-CH 25V 25A TDSON-8; Manufacturer: Infineon Technologies; Rds On (Max) at Id, Vgs: 2.4 mOhm @ 30A, 10V; Vgs(th) (Max) at Id: 2V @ 250uA; Gate Charge (Qg): 23nC @ 10V; Input Capacitance (Ciss) at Vds: 1700pF @ 12V; Power - Max: 48W; Current Continuous Drain: 25A (Ta), 100A (Tc); Part Number: BSC024NE2LS; PartId: 8028; Supplier 1: Digi-Key; Supplier Part Number 1: BSC024NE2LSTR-ND; ComponentLink1Description: Datasheet; ComponentLink1URL: http://www.infineon.com/dgdl/BSC024NE2LS_Rev+2.1.pdf?folderId=db3a304313b8b5a60113cee8763b02d7&fileId=db3a30432c64a60d012ca76f4fe52f6b; ComponentLink2Description: Digi-Key Listing; ComponentLink2URL: http://www.digikey.com/product-detail/en/BSC024NE2LS/BSC024NE2LSTR-ND/2783444; Price: 0.297; Type: MOSFET N-Channel, Metal Oxide; Device Package: 8-PowerTDFN; Drain to Source Voltage (Vdss): 25V; Features: Standard
footprint INFINEON PG-TDSON-8 6.15x5.32mm
pins: 1 S, 2 S, 3 S, 4 G, 5 D, 6 D, 7 D, 8 D

## BSC025N03LS G
designator IC?
MOSFET N-CH 30V 100A TDSON-8; Manufacturer: Infineon Technologies; Rds On (Max) at Id, Vgs: 2.5 mOhm @ 30A, 10V; Vgs(th) (Max) at Id: 2.2V @ 250uA; Gate Charge (Qg): 74nC @ 10V; Input Capacitance (Ciss) at Vds: 6100pF @ 15V; Power - Max: 83W; Current Continuous Drain: 25A (Ta), 100A (Tc); Part Number: BSC025N03LS G; PartId: 8019; Supplier 1: Digi-Key; Supplier Part Number 1: BSC025N03LSGINTR-ND; ComponentLink1Description: Datasheet; ComponentLink1URL: http://www.infineon.com/cms/en/services/download.html?filename=%2Fdgdl%2FBSC025N03LS_rev1.2.pdf%3FfolderId%3Ddb3a304412b407950112b408e8c90004%26fileId%3Ddb3a304412b407950112b4274ff53bff&location=.en.; ComponentLink2Description: Digi-Key Listing; ComponentLink2URL: http://www.digikey.com/product-detail/en/BSC025N03LS%20G/BSC025N03LSGINTR-ND/1785563; Price: 0.3866; Type: MOSFET N-Channel, Metal Oxide; Device Package: 8-PowerTDFN; Drain to Source Voltage (Vdss): 30V; Features: Logic Level Gate
footprint INFINEON PG-TDSON-8 6.15x5.32mm
pins: 1 S, 2 S, 3 S, 4 G, 5 D, 6 D, 7 D, 8 D

## BSC026N02KS G
designator IC?
MOSFET N-CH 20V 100A TDSON-8; Manufacturer: Infineon Technologies; Rds On (Max) at Id, Vgs: 2.6 mOhm @ 50A, 4.5V; Vgs(th) (Max) at Id: 1.2V @ 200uA; Gate Charge (Qg): 52.7nC @ 4.5V; Input Capacitance (Ciss) at Vds: 7800pF @ 10V; Power - Max: 78W; Current Continuous Drain: 25A (Ta), 100A (Tc); Part Number: BSC026N02KS G; PartId: 7989; Supplier 1: Digi-Key; Supplier Part Number 1: BSC026N02KS GTR-ND; ComponentLink1Description: Datasheet; ComponentLink1URL: http://www.infineon.com/dgdl/BSC026N02KS+G+Rev1.05.pdf?folderId=db3a3043163797a6011637c252b10018&fileId=db3a3043163797a6011637c2a4280019; ComponentLink2Description: Digi-Key Listing; ComponentLink2URL: http://www.digikey.com/product-detail/en/BSC026N02KS%20G/BSC026N02KS%20GTR-ND/2080615; Price: 0.5514; Type: MOSFET N-Channel, Metal Oxide; Device Package: 8-PowerTDFN; Drain to Source Voltage (Vdss): 20V; Features: Logic Level Gate, 2.5V Drive
footprint INFINEON PG-TDSON-8 6.15x5.32mm
pins: 1 S, 2 S, 3 S, 4 G, 5 D, 6 D, 7 D, 8 D

## BSC027N04LSGATMA1
designator IC?
MOSFET N-CH 40V 100A TDSON-8; Manufacturer: Infineon Technologies; Rds On (Max) at Id, Vgs: 2.7 mOhm @ 50A, 10V; Vgs(th) (Max) at Id: 2V @ 49uA; Gate Charge (Qg): 85nC @ 10V; Input Capacitance (Ciss) at Vds: 6800pF @ 20V; Power - Max: 83W; Current Continuous Drain: 24A (Ta), 100A (Tc); Part Number: BSC027N04LSGATMA1; PartId: 7984; Supplier 1: Digi-Key; Supplier Part Number 1: BSC027N04LSGATMA1TR-ND; ComponentLink1Description: Datasheet; ComponentLink1URL: http://www.infineon.com/dgdl/BSC027N04LSG_rev1.04.pdf?folderId=db3a3043156fd5730115c7d50620107c&fileId=db3a30431689f4420116c4323646080c; ComponentLink2Description: Digi-Key Listing; ComponentLink2URL: http://www.digikey.com/product-detail/en/BSC027N04LSGATMA1/BSC027N04LSGATMA1TR-ND/2080616; Price: 0.4123; Type: MOSFET N-Channel, Metal Oxide; Device Package: 8-PowerTDFN; Drain to Source Voltage (Vdss): 40V; Features: Logic Level Gate
footprint INFINEON PG-TDSON-8 6.15x5.32mm
pins: 1 S, 2 S, 3 S, 4 G, 5 D, 6 D, 7 D, 8 D

## BSC028N06LS3 G
designator IC?
MOSFET N-CH 60V 100A TDSON-8; Manufacturer: Infineon Technologies; Rds On (Max) at Id, Vgs: 2.8 mOhm @ 50A, 10V; Vgs(th) (Max) at Id: 2.2V @ 93uA; Gate Charge (Qg): 175nC @ 10V; Input Capacitance (Ciss) at Vds: 13000pF @ 30V; Power - Max: 139W; Current Continuous Drain: 23A (Ta), 100A (Tc); Part Number: BSC028N06LS3 G; PartId: 7994; Supplier 1: Digi-Key; Supplier Part Number 1: BSC028N06LS3 GTR-ND; ComponentLink1Description: Datasheet; ComponentLink1URL: http://www.infineon.com/dgdl/BSC028N06LS3_rev2.2.pdf?folderId=db3a30431ddc9372011ebafa04517f8b&fileId=db3a30431ddc9372011ebafa4c607f8c; ComponentLink2Description: Digi-Key Listing; ComponentLink2URL: http://www.digikey.com/product-detail/en/BSC028N06LS3%20G/BSC028N06LS3%20GTR-ND/2080617; Price: 0.9129; Type: MOSFET N-Channel, Metal Oxide; Device Package: 8-PowerTDFN; Drain to Source Voltage (Vdss): 60V; Features: Logic Level Gate
footprint INFINEON PG-TDSON-8 6.15x5.32mm
pins: 1 S, 2 S, 3 S, 4 G, 5 D, 6 D, 7 D, 8 D

## BSC028N06NS
designator IC?
MOSFET N-CH 60V 23A TDSON-8; Manufacturer: Infineon Technologies; Rds On (Max) at Id, Vgs: 2.8 mOhm @ 50A, 10V; Vgs(th) (Max) at Id: 2.8V @ 50uA; Gate Charge (Qg): 37nC @ 10V; Input Capacitance (Ciss) at Vds: 2700pF @ 30V; Power - Max: 2.5W; Current Continuous Drain: 23A (Ta), 100A (Tc); Part Number: BSC028N06NS; PartId: 8013; Supplier 1: Digi-Key; Supplier Part Number 1: BSC028N06NSTR-ND; ComponentLink1Description: Datasheet; ComponentLink1URL: http://www.infineon.com/dgdl/BSC028N06NS_Rev2.0.pdf?folderId=db3a30431ddc9372011ebafa04517f8b&fileId=db3a3043345a30bc013465d221bd62f9; ComponentLink2Description: Digi-Key Listing; ComponentLink2URL: http://www.digikey.com/product-detail/en/BSC028N06NS/BSC028N06NSTR-ND/3719793; Price: 0.7448; Type: MOSFET N-Channel, Metal Oxide; Device Package: 8-PowerTDFN; Drain to Source Voltage (Vdss): 60V; Features: Standard
footprint INFINEON PG-TDSON-8 6.15x5.32mm
pins: 1 S, 2 S, 3 S, 4 G, 5 D, 6 D, 7 D, 8 D

## BSC030N03LS G
designator IC?
MOSFET N-CH 30V 100A TDSON-8; Manufacturer: Infineon Technologies; Rds On (Max) at Id, Vgs: 3 mOhm @ 30A, 10V; Vgs(th) (Max) at Id: 2.2V @ 250uA; Gate Charge (Qg): 55nC @ 10V; Input Capacitance (Ciss) at Vds: 4300pF @ 15V; Power - Max: 69W; Current Continuous Drain: 23A (Ta), 100A (Tc); Part Number: BSC030N03LS G; PartId: 8006; Supplier 1: Digi-Key; Supplier Part Number 1: BSC030N03LS GTR-ND; ComponentLink1Description: Datasheet; ComponentLink1URL: http://www.infineon.com/dgdl/BSC030N03LS_rev1.25.pdf?folderId=db3a304412b407950112b408e8c90004&fileId=db3a304412b407950112b42766953c23; ComponentLink2Description: Digi-Key Listing; ComponentLink2URL: http://www.digikey.com/product-detail/en/BSC030N03LS%20G/BSC030N03LS%20GTR-ND/2080618; Price: 0.3105; Type: MOSFET N-Channel, Metal Oxide; Device Package: 8-PowerTDFN; Drain to Source Voltage (Vdss): 30V; Features: Logic Level Gate
footprint INFINEON PG-TDSON-8 6.15x5.32mm
pins: 1 S, 2 S, 3 S, 4 G, 5 D, 6 D, 7 D, 8 D

## BSC030N03MS G
designator IC?
MOSFET N-CH 30V 100A TDSON-8; Manufacturer: Infineon Technologies; Rds On (Max) at Id, Vgs: 3 mOhm @ 30A, 10V; Vgs(th) (Max) at Id: 2V @ 250uA; Gate Charge (Qg): 73nC @ 10V; Input Capacitance (Ciss) at Vds: 5700pF @ 15V; Power - Max: 69W; Current Continuous Drain: 21A (Ta), 100A (Tc); Part Number: BSC030N03MS G; PartId: 7988; Supplier 1: Digi-Key; Supplier Part Number 1: BSC030N03MSGINTR-ND; ComponentLink1Description: Datasheet; ComponentLink1URL: http://www.infineon.com/cms/en/services/download.html?filename=%2Fdgdl%2FBSC030N03MS_rev%2B1.11.pdf%3FfolderId%3Ddb3a304313d846880113d91d60c500c4%26fileId%3Ddb3a304313d846880113de605dea0359&location=; ComponentLink2Description: Digi-Key Listing; ComponentLink2URL: http://www.digikey.com/product-detail/en/BSC030N03MS%20G/BSC030N03MSGINTR-ND/1785565; Price: 0.324; Type: MOSFET N-Channel, Metal Oxide; Device Package: 8-PowerTDFN; Drain to Source Voltage (Vdss): 30V; Features: Standard
footprint INFINEON PG-TDSON-8 6.15x5.32mm
pins: 1 S, 2 S, 3 S, 4 G, 5 D, 6 D, 7 D, 8 D

## BSC031N06NS3 G
designator IC?
MOSFET N-CH 60V 100A TDSON-8; Manufacturer: Infineon Technologies; Rds On (Max) at Id, Vgs: 3.1 mOhm @ 50A, 10V; Vgs(th) (Max) at Id: 4V @ 93uA; Gate Charge (Qg): 130nC @ 10V; Input Capacitance (Ciss) at Vds: 11000pF @ 30V; Power - Max: 139W; Current Continuous Drain: 100A (Tc); Part Number: BSC031N06NS3 G; PartId: 8014; Supplier 1: Digi-Key; Supplier Part Number 1: BSC031N06NS3 GTR-ND; ComponentLink1Description: Datasheet; ComponentLink1URL: http://www.infineon.com/dgdl/BSC031N06NS3_Rev2.3.pdf?folderId=db3a30431ddc9372011ebafa04517f8b&fileId=db3a30431ddc9372011ebaff49fa7fa6; ComponentLink2Description: Digi-Key Listing; ComponentLink2URL: http://www.digikey.com/product-detail/en/BSC031N06NS3%20G/BSC031N06NS3%20GTR-ND/2080621; Price: 0.66; Type: MOSFET N-Channel, Metal Oxide; Device Package: 8-PowerTDFN; Drain to Source Voltage (Vdss): 60V; Features: Standard
footprint INFINEON PG-TDSON-8 6.15x5.32mm
pins: 1 S, 2 S, 3 S, 4 G, 5 D, 6 D, 7 D, 8 D

## BSC035N04LS G
designator IC?
MOSFET N-CH 40V 100A TDSON-8; Manufacturer: Infineon Technologies; Rds On (Max) at Id, Vgs: 3.5 mOhm @ 50A, 10V; Vgs(th) (Max) at Id: 2V @ 36uA; Gate Charge (Qg): 64nC @ 10V; Input Capacitance (Ciss) at Vds: 5100pF @ 20V; Power - Max: 69W; Current Continuous Drain: 21A (Ta), 100A (Tc); Part Number: BSC035N04LS G; PartId: 7982; Supplier 1: Digi-Key; Supplier Part Number 1: BSC035N04LS GTR-ND; ComponentLink1Description: Datasheet; ComponentLink1URL: http://www.infineon.com/dgdl/BSC035N04LSG_rev1.02.pdf?folderId=db3a3043156fd5730115c7d50620107c&fileId=db3a30431689f4420116c4388f820817; ComponentLink2Description: Digi-Key Listing; ComponentLink2URL: http://www.digikey.com/product-detail/en/BSC035N04LS%20G/BSC035N04LS%20GTR-ND/2080623; Price: 0.3307; Type: MOSFET N-Channel, Metal Oxide; Device Package: 8-PowerTDFN; Drain to Source Voltage (Vdss): 40V; Features: Logic Level Gate
footprint INFINEON PG-TDSON-8 6.15x5.32mm
pins: 1 S, 2 S, 3 S, 4 G, 5 D, 6 D, 7 D, 8 D

## BSC036NE7NS3GATMA1
designator IC?
MOSFET N-CH 75V 100A TDSON-8; Manufacturer: Infineon Technologies; Rds On (Max) at Id, Vgs: 3.6 mOhm @ 50A, 10V; Vgs(th) (Max) at Id: 3.8V @ 110uA; Gate Charge (Qg): 63.4nC @ 10V; Input Capacitance (Ciss) at Vds: 4400pF @ 37.5V; Power - Max: 156W; Current Continuous Drain: 100A (Tc); Part Number: BSC036NE7NS3GATMA1; PartId: 15706; Supplier 1: Digi-Key; Supplier Part Number 1: BSC036NE7NS3GATMA1TR-ND; ComponentLink1Description: Datasheet; ComponentLink1URL: http://www.infineon.com/dgdl/BSC036NE7NS3G_Rev2+0.pdf?folderId=db3a304313b8b5a60113cee8763b02d7&fileId=db3a304332fc1ee7013316e0d2607105; ComponentLink2Description: Digi-Key Listing; ComponentLink2URL: https://www.digikey.com/product-detail/en/infineon-technologies/BSC036NE7NS3GATMA1/BSC036NE7NS3GATMA1TR-ND/4318674; Price: 1.3708; Type: MOSFET N-Channel, Metal Oxide; Device Package: 8-PowerTDFN; Drain to Source Voltage (Vdss): 75V; Features: Standard
footprint INFINEON PG-TDSON-8 6.15x5.32mm
pins: 1 S, 2 S, 3 S, 4 G, 5 D, 6 D, 7 D, 8 D

## BSC039N06NS
designator IC?
MOSFET N-CH 60V 19A TDSON-8; Manufacturer: Infineon Technologies; Rds On (Max) at Id, Vgs: 3.9 mOhm @ 50A, 10V; Vgs(th) (Max) at Id: 2.8V @ 36uA; Gate Charge (Qg): 27nC @ 10V; Input Capacitance (Ciss) at Vds: 2000pF @ 30V; Power - Max: 69W; Current Continuous Drain: 19A (Ta), 100A (Tc); Part Number: BSC039N06NS; PartId: 8015; Supplier 1: Digi-Key; Supplier Part Number 1: BSC039N06NSTR-ND; ComponentLink1Description: Datasheet; ComponentLink1URL: http://www.infineon.com/dgdl/BSC039N06NS_Rev2.0.pdf?folderId=db3a304313b8b5a60113cee8763b02d7&fileId=db3a30433727a44301372c3adce949c7; ComponentLink2Description: Digi-Key Listing; ComponentLink2URL: http://www.digikey.com/product-detail/en/BSC039N06NS/BSC039N06NSTR-ND/3719795; Price: 0.5346; Type: MOSFET N-Channel, Metal Oxide; Device Package: 8-PowerTDFN; Drain to Source Voltage (Vdss): 60V; Features: Logic Level Gate
footprint INFINEON PG-TDSON-8 6.15x5.32mm
pins: 1 S, 2 S, 3 S, 4 G, 5 D, 6 D, 7 D, 8 D